# Altium schematic symbol library TI_AMP_Connector_282837-2.SchLib: 2 symbols
Pins are listed as number, name and electrical type; pins without a type are passive.

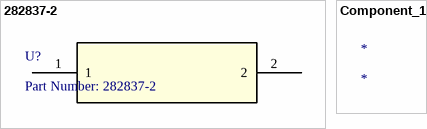
[diagram p0: symbols 282837-2 to Component_1]

## 282837-2
designator U?, comment Part Number: 282837-2
No Description Available; Vendor: TE Connectivity; Built_By: EMA_UL_Team; Manufacturer_Part_Number: 282837-2; Copyright: Copyright (C) 2018 Accelerated Designs. All rights reserved; RefDes: RefDes; Type: DEV; Value: Value
footprint 282837-2
pins: 1, 2

## Component_1
designator *